# EAGLE library part WEMOS_LOLIN32_LITE_V1.0.0 (library WEMOS_LOLIN32_Lite_V1.0.0)
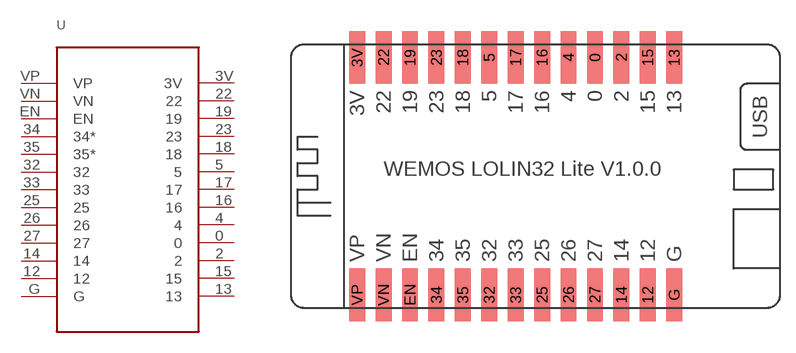
[diagram p0: symbol with the pads of WEMOS_LOLIN32_LITE_V1.0.0; footprint WEMOS_LOLIN32_LITE_V1.0.0]

Designator prefix -

## WEMOS_LOLIN32_LITE_V1.0.0  [WEMOS_LOLIN32_LITE_V1.0.0]
0  0
2  2
3V  3V
4  4
5  5
12  12
13  13
14  14
15  15
16  16
17  17
18  18
19  19
22  22
23  23
25  25
26  26
27  27
32  32
33  33
34  34*
35  35*
EN  EN
G  G
VN  VN
VP  VP

## Footprint WEMOS_LOLIN32_LITE_V1.0.0 (pad centres in mm)
smd 1.524 x 5.08: 0 6.35,10.16; 2 8.89,10.16; 3V -16.51,10.16; 4 3.81,10.16; 5 -3.81,10.16; 12 11.43,-12.7; 13 13.97,10.16; 14 8.89,-12.7; 15 11.43,10.16; 16 1.27,10.16; 17 -1.27,10.16; 18 -6.35,10.16; 19 -11.43,10.16; 22 -13.97,10.16; 23 -8.89,10.16; 25 1.27,-12.7; 26 3.81,-12.7; 27 6.35,-12.7; 32 -3.81,-12.7; 33 -1.27,-12.7; 34 -8.89,-12.7; 35 -6.35,-12.7; EN -11.43,-12.7; G 13.97,-12.7; VN -13.97,-12.7; VP -16.51,-12.7